# Altium schematic symbol library LEDs-IR.SchLib: 1 symbol
Pins are listed as number, name and electrical type; pins without a type are passive.

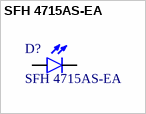
[diagram p0: symbol SFH 4715AS-EA]

## SFH 4715AS-EA
designator D?
Manufacturer: Osram; PartNumber: SFH 4715AS-EA; Mounting Technology: Surface Mount; Package Reference: SMD-3
footprint SFH 4715AS
pins: A, C